# Altium integrated library Altium_SMD_Resister.IntLib: 493 symbols (part 6 of 8)
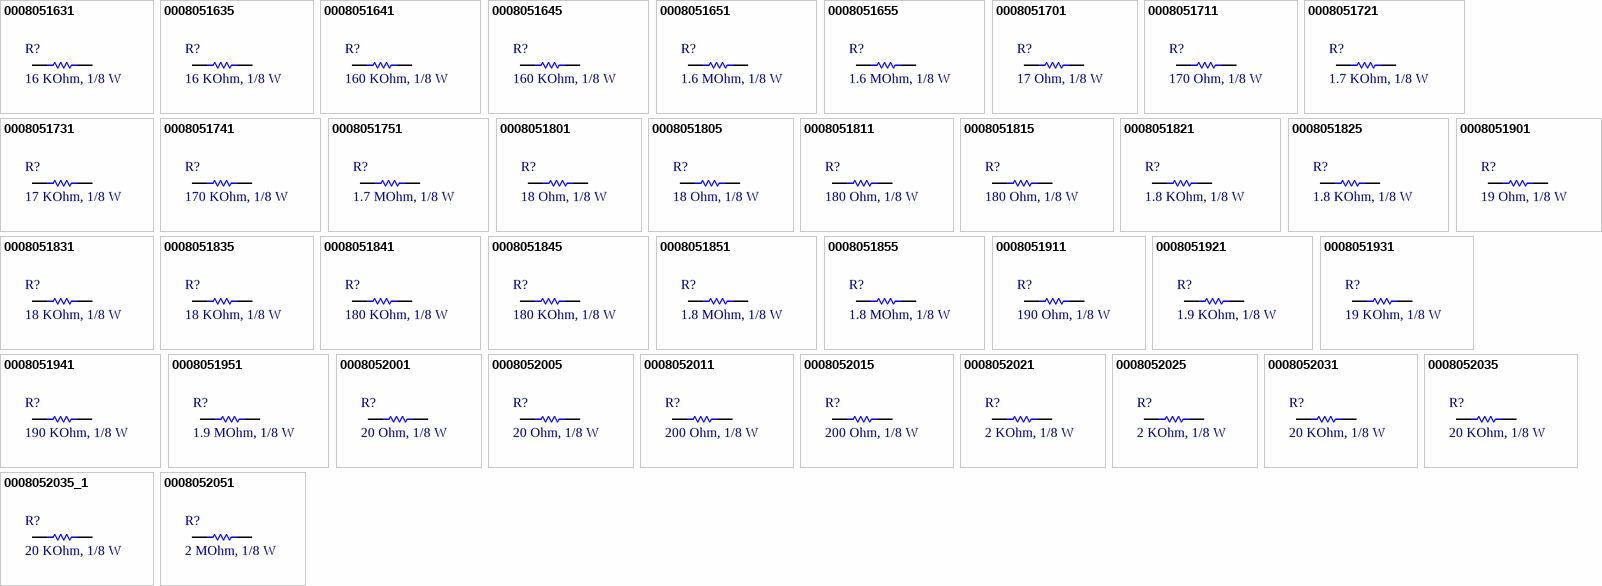
[diagram p17: symbols 0008051631 to 0008052051]

## 0008051811
designator R?, comment 180 Ohm, 1/8 W
RES, size 0805, 180 Ohm, 1/8 W; Manufacture  Name: Vishay Dale; Manufacture  SN: CRCW0805180RFKEA; Resistance tolerance: +/-1%; Rated Power: 1/8 W; Resistance: 180 Ohm; Size: 0805; Mounting Technology: SMT; Datasheet: https://www.vishay.com/docs/20035/dcrcwe3.pdf; Supplier 1 Name: Mouser; Supplier 1 SN: 71-CRCW0805180RFKEA; Supplier 1 URL: https://www.mouser.vn/ProductDetail/Vishay-Dale/CRCW0805180RFKEA?qs=2mNt4BZ3oPx3JSoDddPwBg%3D%3D; Supplier 2 Name: Digi-Key; Supplier 2 SN: 541-180CTR-ND; Supplier 2 URL: https://www.digikey.com/en/products/detail/vishay-dale/CRCW0805180RFKEA/1175550; Supplier 3 Name: Thegioiic; Supplier 3 SN: N/A; Supplier 3 URL: https://www.thegioiic.com/dien-tro-180-ohm-0805-1; Value: 180 Ohm, 1/8 W
footprint RESISTOR_0805 (Chip Resistor, 2-Leads, Body 2,00x1,20mm, IPC Medium Density)
pins: 1, 2

## 0008051815
designator R?, comment 180 Ohm, 1/8 W
RES, size 0805, 180 Ohm, 1/8 W; Manufacture  Name: Vishay Dale; Manufacture  SN: CRCW0805180RJNEA; Resistance tolerance: +/-5%; Rated Power: 1/8 W; Resistance: 180 Ohm; Size: 0805; Mounting Technology: SMT; Datasheet: https://www.vishay.com/docs/20035/dcrcwe3.pdf; Supplier 1 Name: Mouser; Supplier 1 SN: 71-CRCW0805180RJNEA; Supplier 1 URL: https://www.mouser.vn/ProductDetail/Vishay-Dale/CRCW0805180RJNEA?qs=2mNt4BZ3oPw5LDq56YqQBw%3D%3D; Supplier 2 Name: Digi-Key; Supplier 2 SN: 541-180ATR-ND; Supplier 2 URL: https://www.digikey.com/en/products/detail/vishay-dale/CRCW0805180RJNEA/1175180; Supplier 3 Name: Thegioiic; Supplier 3 SN: N/A; Supplier 3 URL: https://www.thegioiic.com/dien-tro-180-ohm-0805-5; Value: 180 Ohm, 1/8 W
footprint RESISTOR_0805 (Chip Resistor, 2-Leads, Body 2,00x1,20mm, IPC Medium Density)
pins: 1, 2

## 0008051821
designator R?, comment 1.8 KOhm, 1/8 W
RES, size 0805, 1.8 KOhm, 1/8 W; Manufacture  Name: Vishay Dale; Manufacture  SN: CRCW08051K80FKEAC; Resistance tolerance: +/-1%; Rated Power: 1/8 W; Size: 0805; Mounting Technology: SMT; Datasheet: https://www.vishay.com/docs/28773/crcwce3.pdf; Resistance: 1.8 KOhm; Supplier 1 Name: Mouser; Supplier 1 SN: 71-CRCW0805-1.8K; Supplier 1 URL: https://www.mouser.vn/ProductDetail/Vishay-Dale/CRCW08051K80FKTA?qs=%2FCr5RXwmPBPYh0ghdoWn4A%3D%3D; Supplier 2 Name: Digi-Key; Supplier 2 SN: 541-CRCW08051K80FKEACTR-ND; Supplier 2 URL: https://www.digikey.com/en/products/detail/vishay-dale/CRCW08051K80FKEAC/7922423; Supplier 3 Name: Thegioiic; Supplier 3 SN: N/A; Supplier 3 URL: N/A; Value: 1.8 KOhm, 1/8 W
footprint RESISTOR_0805 (Chip Resistor, 2-Leads, Body 2,00x1,20mm, IPC Medium Density)
pins: 1, 2

## 0008051825
designator R?, comment 1.8 KOhm, 1/8 W
RES, size 0805, 1.8 KOhm, 1/8 W; Manufacture  Name: Vishay Dale; Manufacture  SN: CRCW08051K80JNEA; Resistance tolerance: +/-5%; Rated Power: 1/8 W; Size: 0805; Mounting Technology: SMT; Datasheet: https://www.vishay.com/docs/20035/dcrcwe3.pdf; Resistance: 1.8 KOhm; Supplier 1 Name: Mouser; Supplier 1 SN: 71-CRCW08051K80JNEA; Supplier 1 URL: https://www.mouser.vn/ProductDetail/Vishay-Dale/CRCW08051K80JNEA?qs=1CkV0QOCgMoziGcs0GIg9A%3D%3D; Supplier 2 Name: Digi-Key; Supplier 2 SN: 541-1.8KATR-ND; Supplier 2 URL: https://www.digikey.com/en/products/detail/vishay-dale/CRCW08051K80JNEA/1175204; Supplier 3 Name: Thegioiic; Supplier 3 SN: N/A; Supplier 3 URL: https://www.thegioiic.com/dien-tro-1-8-kohm-0805-5; Value: 1.8 KOhm, 1/8 W
footprint RESISTOR_0805 (Chip Resistor, 2-Leads, Body 2,00x1,20mm, IPC Medium Density)
pins: 1, 2

## 0008051831
designator R?, comment 18 KOhm, 1/8 W
RES, size 0805, 18 KOhm, 1/8 W; Manufacture  Name: Vishay Dale; Manufacture  SN: CRCW080518K0FKEAC; Resistance tolerance: +/-1%; Rated Power: 1/8 W; Resistance: 18 KOhm; Size: 0805; Mounting Technology: SMT; Datasheet: https://www.vishay.com/docs/28773/crcwce3.pdf; Supplier 1 Name: Mouser; Supplier 1 SN: 71-CRCW0805-18K; Supplier 1 URL: https://www.mouser.vn/ProductDetail/Vishay-Dale/CRCW080518K0FKTA?qs=y%252BxuShyeZ0NrSEy0dNjJIA%3D%3D; Supplier 2 Name: Digi-Key; Supplier 2 SN: 541-CRCW080518K0FKEACTR-ND; Supplier 2 URL: https://www.digikey.com/en/products/detail/vishay-dale/CRCW080518K0FKEAC/7922446; Supplier 3 Name: Thegioiic; Supplier 3 SN: N/A; Supplier 3 URL: N/A; Value: 18 KOhm, 1/8 W
footprint RESISTOR_0805 (Chip Resistor, 2-Leads, Body 2,00x1,20mm, IPC Medium Density)
pins: 1, 2

## 0008051835
designator R?, comment 18 KOhm, 1/8 W
RES, size 0805, 18 KOhm, 1/8 W; Manufacture  Name: Vishay Dale; Manufacture  SN: CRCW080518K0JNEA; Resistance tolerance: +/-5%; Rated Power: 1/8 W; Resistance: 18 KOhm; Size: 0805; Mounting Technology: SMT; Datasheet: https://www.vishay.com/docs/20035/dcrcwe3.pdf; Supplier 1 Name: Mouser; Supplier 1 SN: 71-CRCW080518K0JNEA; Supplier 1 URL: https://www.mouser.vn/ProductDetail/Vishay-Dale/CRCW080518K0JNEA?qs=DZvKvnD5UYWL7mO9xPXKNA%3D%3D; Supplier 2 Name: Digi-Key; Supplier 2 SN: 541-18KATR-ND; Supplier 2 URL: https://www.digikey.com/en/products/detail/vishay-dale/CRCW080518K0JNEA/1175228; Supplier 3 Name: Thegioiic; Supplier 3 SN: N/A; Supplier 3 URL: https://www.thegioiic.com/dien-tro-18-kohm-0805-5; Value: 18 KOhm, 1/8 W
footprint RESISTOR_0805 (Chip Resistor, 2-Leads, Body 2,00x1,20mm, IPC Medium Density)
pins: 1, 2

## 0008051841
designator R?, comment 180 KOhm, 1/8 W
RES, size 0805, 180 KOhm, 1/8 W; Manufacture  Name: Vishay Dale; Manufacture  SN: CRCW0805180KFKEAC; Resistance tolerance: +/-1%; Rated Power: 1/8 W; Size: 0805; Mounting Technology: SMT; Datasheet: https://www.vishay.com/docs/28773/crcwce3.pdf; Resistance: 180 KOhm; Supplier 1 Name: Mouser; Supplier 1 SN: 71-CRCW0805180KFKEA; Supplier 1 URL: https://www.mouser.vn/ProductDetail/Vishay-Dale/CRCW0805180KFKEA?qs=2mNt4BZ3oPxkEXJ7pFEQ5A%3D%3D; Supplier 2 Name: Digi-Key; Supplier 2 SN: 541-CRCW0805180KFKEACTR-ND; Supplier 2 URL: https://www.digikey.com/en/products/detail/vishay-dale/CRCW0805180KFKEAC/7922559; Supplier 3 Name: Thegioiic; Supplier 3 SN: N/A; Supplier 3 URL: https://www.vishay.com/docs/28773/crcwce3.pdf; Value: 180 KOhm, 1/8 W
footprint RESISTOR_0805 (Chip Resistor, 2-Leads, Body 2,00x1,20mm, IPC Medium Density)
pins: 1, 2

## 0008051845
designator R?, comment 180 KOhm, 1/8 W
RES, size 0805, 180 KOhm, 1/8 W; Manufacture  Name: Vishay Dale; Manufacture  SN: CRCW0805180KJNEA; Resistance tolerance: +/-5%; Rated Power: 1/8 W; Size: 0805; Mounting Technology: SMT; Datasheet: https://www.vishay.com/docs/20035/dcrcwe3.pdf; Resistance: 180 KOhm; Supplier 1 Name: Mouser; Supplier 1 SN: 71-CRCW0805180KJNEA; Supplier 1 URL: https://www.mouser.vn/c/passive-components/resistors/film-resistors/thick-film-resistors-smd/?case%20code%20-%20in=0805&m=Vishay&power%20rating=125%20mW%20%281%2F8%20W%29&resistance=180%20kOhms&tolerance=5%20%25; Supplier 2 Name: Digi-Key; Supplier 2 SN: 541-180KATR-ND; Supplier 2 URL: https://www.digikey.com/en/products/detail/vishay-dale/CRCW0805180KJNEA/1175252; Supplier 3 Name: Thegioiic; Supplier 3 SN: N/A; Supplier 3 URL: https://www.thegioiic.com/dien-tro-180-kohm-0805-5; Value: 180 KOhm, 1/8 W
footprint RESISTOR_0805 (Chip Resistor, 2-Leads, Body 2,00x1,20mm, IPC Medium Density)
pins: 1, 2

## 0008051851
designator R?, comment 1.8 MOhm, 1/8 W
RES, size 0805, 1.8 MOhm, 1/8 W; Manufacture  Name: Vishay Dale; Resistance tolerance: +/-1%; Rated Power: 1/8 W; Size: 0805; Mounting Technology: SMT; Datasheet: N/A; Supplier 1 Name: Mouser; Supplier 1 SN: 71-CRCW08051M80FKEAC; Supplier 1 URL: https://www.mouser.vn/ProductDetail/Vishay-Dale/CRCW08051M80FKEAC?qs=E3Y5ESvWgWPnWxcGndSAkw%3D%3D; Supplier 2 Name: Digi-Key; Supplier 2 SN: 71-CRCW08051M80FKEAC; Supplier 2 URL: https://www.digikey.com/en/products/detail/vishay-dale/CRCW08051M80FKEA/1176043; Supplier 3 Name: Thegioiic; Supplier 3 SN: N/A; Supplier 3 URL: N/A; Manufacture  SN: N/A; Resistance: 1.8 MOhm; Value: 1.8 MOhm, 1/8 W
footprint RESISTOR_0805 (Chip Resistor, 2-Leads, Body 2,00x1,20mm, IPC Medium Density)
pins: 1, 2

## 0008051855
designator R?, comment 1.8 MOhm, 1/8 W
RES, size 0805, 1.8 MOhm, 1/8 W; Manufacture  Name: Vishay Dale; Manufacture  SN: CRCW08051M80JNEA; Resistance tolerance: +/-5%; Rated Power: 1/8 W; Size: 0805; Mounting Technology: SMT; Datasheet: https://www.vishay.com/docs/20035/dcrcwe3.pdf; Supplier 1 Name: Mouser; Supplier 1 SN: 71-CRCW08051M80JNEA; Supplier 1 URL: https://www.mouser.vn/ProductDetail/Vishay-Dale/CRCW08051M80JNEA?qs=1CkV0QOCgMorN9CsUzm1mw%3D%3D; Supplier 2 Name: Digi-Key; Supplier 2 SN: 541-1.8MATR-ND; Supplier 2 URL: https://www.digikey.com/en/products/detail/vishay-dale/CRCW08051M80JNEA/1175276; Supplier 3 Name: Thegioiic; Supplier 3 SN: N/A; Supplier 3 URL: https://www.thegioiic.com/dien-tro-1-8-mohm-0805-5; Resistance: 1.8 MOhm; Value: 1.8 MOhm, 1/8 W
footprint RESISTOR_0805 (Chip Resistor, 2-Leads, Body 2,00x1,20mm, IPC Medium Density)
pins: 1, 2

## 0008051901
designator R?, comment 19 Ohm, 1/8 W
RES, size 0805, 19 Ohm, 1/8 W; Manufacture  Name: Vishay Dale; Manufacture  SN: CRCW080519R1FKEA; Resistance tolerance: +/-1%; Rated Power: 1/8 W; Resistance: 19 Ohm; Size: 0805; Mounting Technology: SMT; Datasheet: https://www.vishay.com/docs/20035/dcrcwe3.pdf; Supplier 1 Name: Mouser; Supplier 1 SN: 71-CRCW080519R1FKEA; Supplier 1 URL: https://www.mouser.vn/ProductDetail/Vishay-Dale/CRCW080519R1FKEA?qs=DZvKvnD5UYXfdXVlAdbS3g%3D%3D; Supplier 2 Name: Digi-Key; Supplier 2 SN: 541-19.1CTR-ND; Supplier 2 URL: https://www.digikey.com/en/products/detail/vishay-dale/CRCW080519R1FKEA/1175439; Supplier 3 Name: Thegioiic; Supplier 3 SN: N/A; Supplier 3 URL: N/A; Value: 19 Ohm, 1/8 W
footprint RESISTOR_0805 (Chip Resistor, 2-Leads, Body 2,00x1,20mm, IPC Medium Density)
pins: 1, 2

## 0008051911
designator R?, comment 190 Ohm, 1/8 W
RES, size 0805, 190 Ohm, 1/8 W; Manufacture  Name: Vishay Dale; Manufacture  SN: CRCW0805191RFKEA; Resistance tolerance: +/-1%; Rated Power: 1/8 W; Resistance: 190 Ohm; Size: 0805; Mounting Technology: SMT; Datasheet: https://www.vishay.com/docs/20035/dcrcwe3.pdf; Supplier 1 Name: Mouser; Supplier 1 SN: 71-CRCW0805191RFKEA; Supplier 1 URL: https://www.mouser.vn/ProductDetail/Vishay-Dale/CRCW0805191RFKEA?qs=DZvKvnD5UYVwpMLdTR87ZQ%3D%3D; Supplier 2 Name: Digi-Key; Supplier 2 SN: 541-191CTR-ND; Supplier 2 URL: https://www.digikey.com/en/products/detail/vishay-dale/CRCW0805191RFKEA/1175553; Supplier 3 Name: Thegioiic; Supplier 3 SN: N/A; Supplier 3 URL: N/A; Value: 190 Ohm, 1/8 W
footprint RESISTOR_0805 (Chip Resistor, 2-Leads, Body 2,00x1,20mm, IPC Medium Density)
pins: 1, 2

## 0008051921
designator R?, comment 1.9 KOhm, 1/8 W
RES, size 0805, 1.9 KOhm, 1/8 W; Manufacture  Name: Vishay Dale; Manufacture  SN: CRCW08051K91FKEA; Resistance tolerance: +/-1%; Rated Power: 1/8 W; Size: 0805; Mounting Technology: SMT; Datasheet: https://www.vishay.com/docs/20035/dcrcwe3.pdf; Resistance: 1.9 KOhm; Supplier 1 Name: Mouser; Supplier 1 SN: 71-CRCW08051K91FKEAC; Supplier 1 URL: https://www.mouser.vn/ProductDetail/Vishay-Dale/CRCW08051K91FKEAC?qs=E3Y5ESvWgWNbW88wEVrLPg%3D%3D; Supplier 2 Name: Digi-Key; Supplier 2 SN: 541-1.91KCTR-ND; Supplier 2 URL: https://www.digikey.com/en/products/detail/vishay-dale/CRCW08051K91FKEA/1175667; Supplier 3 Name: Thegioiic; Supplier 3 SN: N/A; Supplier 3 URL: N/A; Value: 1.9 KOhm, 1/8 W
footprint RESISTOR_0805 (Chip Resistor, 2-Leads, Body 2,00x1,20mm, IPC Medium Density)
pins: 1, 2

## 0008051931
designator R?, comment 19 KOhm, 1/8 W
RES, size 0805, 19 KOhm, 1/8 W; Manufacture  Name: Vishay Dale; Manufacture  SN: CRCW080519K0FKTA; Resistance tolerance: +/-1%; Rated Power: 1/8 W; Resistance: 19 KOhm; Size: 0805; Mounting Technology: SMT; Datasheet: https://www.vishay.com/docs/20008/dcrcw.pdf; Supplier 1 Name: Mouser; Supplier 1 SN: 71-CRCW0805-19.1K; Supplier 1 URL: https://www.mouser.vn/c/passive-components/resistors/film-resistors/thick-film-resistors-smd/?case%20code%20-%20in=0805&case%20code%20-%20mm=2012&m=Vishay&power%20rating=125%20mW%20%281%2F8%20W%29&resistance=19.1%20kOhms&termination%20style=SMD%2FSMT&tolerance=1%20%25; Supplier 2 Name: Digi-Key; Supplier 2 SN: CRCW080519K0FKTA-ND; Supplier 2 URL: https://www.digikey.com/en/products/detail/vishay-dale/CRCW080519K0FKTA/5074036?s=N4IgjCBcoExaBjKAzAhgGwM4FMA0IB7KAbXAAYAOAdgE4QBdfABwBcoQBlFgJwEsA7AOYgAvvgDM8EEkhoseQiXBhxERiFbsufIaPxgYNCNGkoMOfEUilxNcTAoNmbSJx4DhYkDEoBWKTJyForW4DQABADWAPIAFgC2mE4aLiAAqvy8LNHIALLYqJgArtzYeiAAtMaIZvKWSr4ALGoirUA; Supplier 3 Name: Thegioiic; Supplier 3 SN: N/A; Supplier 3 URL: N/A; Value: 19 KOhm, 1/8 W
footprint RESISTOR_0805 (Chip Resistor, 2-Leads, Body 2,00x1,20mm, IPC Medium Density)
pins: 1, 2

## 0008051941
designator R?, comment 190 KOhm, 1/8 W
RES, size 0805, 190 KOhm, 1/8 W; Manufacture  Name: Vishay Dale; Manufacture  SN: CRCW0805191KFKEAC; Resistance tolerance: +/-1%; Rated Power: 1/8 W; Size: 0805; Mounting Technology: SMT; Datasheet: https://www.vishay.com/docs/28773/crcwce3.pdf; Resistance: 190 KOhm; Supplier 1 Name: Mouser; Supplier 1 SN: 71-CRCW0805191KFKEAC; Supplier 1 URL: https://www.mouser.vn/ProductDetail/Vishay-Dale/CRCW0805191KFKEAC?qs=wd5RIQLrsJiMbMBlRMtkHQ%3D%3D; Supplier 2 Name: Digi-Key; Supplier 2 SN: 541-CRCW0805191KFKEACTR-ND; Supplier 2 URL: https://www.digikey.com/en/products/detail/vishay-dale/CRCW0805191KFKEAC/7922825; Supplier 3 Name: Thegioiic; Supplier 3 SN: N/A; Supplier 3 URL: https://www.mouser.vn/ProductDetail/Vishay-Dale/CRCW0805191KFKEAC?qs=wd5RIQLrsJiMbMBlRMtkHQ%3D%3D; Value: 190 KOhm, 1/8 W
footprint RESISTOR_0805 (Chip Resistor, 2-Leads, Body 2,00x1,20mm, IPC Medium Density)
pins: 1, 2

## 0008051951
designator R?, comment 1.9 MOhm, 1/8 W
RES, size 0805, 1.9 MOhm, 1/8 W; Manufacture  Name: Vishay Dale; Manufacture  SN: CRCW08051M91FKEAC; Resistance tolerance: +/-1%; Rated Power: 1/8 W; Size: 0805; Mounting Technology: SMT; Datasheet: https://www.vishay.com/docs/28773/crcwce3.pdf; Resistance: 1.9 MOhm; Supplier 1 Name: Mouser; Supplier 1 SN: 71-CRCW08051M91FKEA; Supplier 1 URL: https://www.mouser.vn/ProductDetail/Vishay-Dale/CRCW08051M91FKEA?qs=4T2aWUY5LRN4KaJWeIV0TQ%3D%3D; Supplier 2 Name: Digi-Key; Supplier 2 SN: CRCW08051M91FKEAC-ND; Supplier 2 URL: https://www.digikey.com/en/products/detail/vishay-dale/CRCW08051M91FKEAC/7923108; Supplier 3 Name: Thegioiic; Supplier 3 SN: N/A; Supplier 3 URL: N/A; Value: 1.9 MOhm, 1/8 W
footprint RESISTOR_0805 (Chip Resistor, 2-Leads, Body 2,00x1,20mm, IPC Medium Density)
pins: 1, 2

## 0008052001
designator R?, comment 20 Ohm, 1/8 W
RES, size 0805, 20 Ohm, 1/8 W; Manufacture  Name: Vishay Dale; Manufacture  SN: CRCW080520R0FKEA; Resistance tolerance: +/-1%; Rated Power: 1/8 W; Resistance: 20 Ohm; Size: 0805; Mounting Technology: SMT; Datasheet: https://www.vishay.com/docs/20035/dcrcwe3.pdf; Supplier 1 Name: Mouser; Supplier 1 SN: 71-CRCW080520R0FKEBC; Supplier 1 URL: https://www.mouser.vn/ProductDetail/Vishay-Dale/CRCW080520R0FKEBC?qs=wd5RIQLrsJh%2FR92AkXDUUQ%3D%3D; Supplier 2 Name: Digi-Key; Supplier 2 SN: 541-20.0CTR-ND; Supplier 2 URL: https://www.digikey.com/en/products/detail/vishay-dale/CRCW080520R0FKEA/1175441; Supplier 3 Name: Thegioiic; Supplier 3 SN: N/A; Supplier 3 URL: N/A; Value: 20 Ohm, 1/8 W
footprint RESISTOR_0805 (Chip Resistor, 2-Leads, Body 2,00x1,20mm, IPC Medium Density)
pins: 1, 2

## 0008052005
designator R?, comment 20 Ohm, 1/8 W
RES, size 0805, 20 Ohm, 1/8 W; Manufacture  Name: Vishay Dale; Manufacture  SN: CRCW080520R0JNEAC; Resistance tolerance: +/-5%; Rated Power: 1/8 W; Resistance: 20 Ohm; Size: 0805; Mounting Technology: SMT; Datasheet: https://www.vishay.com/docs/28773/crcwce3.pdf; Supplier 1 Name: Mouser; Supplier 1 SN: 71-CRCW080520R0JNEA; Supplier 1 URL: https://www.mouser.vn/ProductDetail/Vishay-Dale/CRCW080520R0FKEBC?qs=wd5RIQLrsJh%2FR92AkXDUUQ%3D%3D; Supplier 2 Name: Digi-Key; Supplier 2 SN: 541-CRCW080520R0JNEACTR-ND; Supplier 2 URL: https://www.mouser.vn/ProductDetail/Vishay-Dale/CRCW080520R0JNEA?qs=t6Mf8e9K%2FulaBeAax0Rq9A%3D%3D; Supplier 3 Name: Thegioiic; Supplier 3 SN: N/A; Supplier 3 URL: https://www.thegioiic.com/dien-tro-20-ohm-0805-5-; Value: 20 Ohm, 1/8 W
footprint RESISTOR_0805 (Chip Resistor, 2-Leads, Body 2,00x1,20mm, IPC Medium Density)
pins: 1, 2

## 0008052011
designator R?, comment 200 Ohm, 1/8 W
RES, size 0805, 200 Ohm, 1/8 W; Manufacture  Name: Vishay Dale; Manufacture  SN: CRCW0805200RFKEAC; Resistance tolerance: +/-1%; Rated Power: 1/8 W; Resistance: 200 Ohm; Size: 0805; Mounting Technology: SMT; Datasheet: https://www.vishay.com/docs/28773/crcwce3.pdf; Supplier 1 Name: Mouser; Supplier 1 SN: 71-CRCW0805200RFKEBC; Supplier 1 URL: https://www.mouser.vn/ProductDetail/Vishay-Dale/CRCW0805200RFKEBC?qs=wd5RIQLrsJjaNQUh4mW%252B3A%3D%3D; Supplier 2 Name: Digi-Key; Supplier 2 SN: 541-4146-2-ND; Supplier 2 URL: https://www.digikey.com/en/products/detail/vishay-dale/CRCW0805200RFKEAC/7928568; Supplier 3 Name: Thegioiic; Supplier 3 SN: N/A; Supplier 3 URL: N/A; Value: 200 Ohm, 1/8 W
footprint RESISTOR_0805 (Chip Resistor, 2-Leads, Body 2,00x1,20mm, IPC Medium Density)
pins: 1, 2

## 0008052015
designator R?, comment 200 Ohm, 1/8 W
RES, size 0805, 200 Ohm, 1/8 W; Manufacture  Name: Vishay Dale; Manufacture  SN: CRCW0805200RJNEA; Resistance tolerance: +/-5%; Rated Power: 1/8 W; Resistance: 200 Ohm; Size: 0805; Mounting Technology: SMT; Datasheet: https://www.vishay.com/docs/20035/dcrcwe3.pdf; Supplier 1 Name: Mouser; Supplier 1 SN: 71-CRCW0805200RJNEB; Supplier 1 URL: https://www.mouser.vn/ProductDetail/Vishay-Dale/CRCW0805200RJNEB?qs=t6Mf8e9K%2Fuk2QHyNFfSEGg%3D%3D; Supplier 2 Name: Digi-Key; Supplier 2 SN: 541-200ATR-ND; Supplier 2 URL: https://www.digikey.com/en/products/detail/vishay-dale/CRCW0805200RJNEA/1175181; Supplier 3 Name: Thegioiic; Supplier 3 SN: N/A; Supplier 3 URL: https://www.thegioiic.com/dien-tro-200-ohm-0805-5; Value: 200 Ohm, 1/8 W
footprint RESISTOR_0805 (Chip Resistor, 2-Leads, Body 2,00x1,20mm, IPC Medium Density)
pins: 1, 2

## 0008052021
designator R?, comment 2 KOhm, 1/8 W
RES, size 0805, 2 KOhm, 1/8 W; Manufacture  Name: Vishay Dale; Manufacture  SN: CRCW08052K00FKEBC; Resistance tolerance: +/-1%; Rated Power: 1/8 W; Resistance: 2 KOhm; Size: 0805; Mounting Technology: SMT; Datasheet: https://www.vishay.com/docs/28773/crcwce3.pdf; Supplier 1 Name: Mouser; Supplier 1 SN: 71-CRCW08052K00FKEBC; Supplier 1 URL: https://www.mouser.vn/ProductDetail/Vishay-Dale/CRCW08052K00FKEBC?qs=wd5RIQLrsJimvZ2z7rs9jQ%3D%3D; Supplier 2 Name: Digi-Key; Supplier 2 SN: 541-CRCW08052K00FKEBCTR-ND; Supplier 2 URL: https://www.digikey.com/en/products/detail/vishay-dale/CRCW08052K00FKEBC/7923203; Supplier 3 Name: Thegioiic; Supplier 3 SN: N/A; Supplier 3 URL: N/A; Value: 2 KOhm, 1/8 W
footprint RESISTOR_0805 (Chip Resistor, 2-Leads, Body 2,00x1,20mm, IPC Medium Density)
pins: 1, 2

## 0008052025
designator R?, comment 2 KOhm, 1/8 W
RES, size 0805, 2 KOhm, 1/8 W; Manufacture  Name: Vishay Dale; Manufacture  SN: CRCW08052K00JNEA; Resistance tolerance: +/-5%; Rated Power: 1/8 W; Resistance: 2 KOhm; Size: 0805; Mounting Technology: SMT; Datasheet: https://www.vishay.com/docs/20035/dcrcwe3.pdf; Supplier 1 Name: Mouser; Supplier 1 SN: 71-CRCW08052K00JNEA; Supplier 1 URL: https://www.mouser.vn/ProductDetail/Vishay-Dale/CRCW08052K00JNEA?qs=SM0pg8AlB3peKJz4hE%252BhDA%3D%3D; Supplier 2 Name: Digi-Key; Supplier 2 SN: 541-2.0KATR-ND; Supplier 2 URL: https://www.digikey.com/en/products/detail/vishay-dale/CRCW08052K00JNEA/1175205; Supplier 3 Name: Thegioiic; Supplier 3 SN: N/A; Supplier 3 URL: https://www.thegioiic.com/dien-tro-2-kohm-0805-5; Value: 2 KOhm, 1/8 W
footprint RESISTOR_0805 (Chip Resistor, 2-Leads, Body 2,00x1,20mm, IPC Medium Density)
pins: 1, 2

## 0008052031
designator R?, comment 20 KOhm, 1/8 W
RES, size 0805, 20 KOhm, 1/8 W; Manufacture  Name: Vishay Dale; Manufacture  SN: CRCW080520K0FKEAC; Resistance tolerance: +/-1%; Rated Power: 1/8 W; Resistance: 20 KOhm; Size: 0805; Mounting Technology: SMT; Datasheet: https://www.vishay.com/docs/28773/crcwce3.pdf; Supplier 1 Name: Mouser; Supplier 1 SN: 71-CRCW0805-20K; Supplier 1 URL: https://www.mouser.vn/ProductDetail/Vishay-Dale/CRCW080520K0FKTA?qs=18bRiP0yrODnUEny%2FmPwqA%3D%3D; Supplier 2 Name: Digi-Key; Supplier 2 SN: 541-4133-2-ND; Supplier 2 URL: https://www.digikey.com/en/products/detail/vishay-dale/CRCW080520K0FKEAC/7928555; Supplier 3 Name: Thegioiic; Supplier 3 SN: N/A; Supplier 3 URL: https://www.thegioiic.com/dien-tro-20-kohm-0805-1; Value: 20 KOhm, 1/8 W
footprint RESISTOR_0805 (Chip Resistor, 2-Leads, Body 2,00x1,20mm, IPC Medium Density)
pins: 1, 2

## 0008052035
designator R?, comment 20 KOhm, 1/8 W
RES, size 0805, 20 KOhm, 1/8 W; Manufacture  Name: Panasonic; Manufacture  SN: ERJ-U06J203V; Resistance tolerance: +/-5%; Rated Power: 1/8 W; Resistance: 20 KOhm; Size: 0805; Mounting Technology: SMT; Datasheet: https://www.mouser.vn/datasheet/2/315/AOA0000C334-1314047.pdf; Supplier 1 Name: Mouser; Supplier 1 SN: 667-ERJ-U06J203V; Supplier 1 URL: https://www.mouser.vn/ProductDetail/Panasonic/ERJ-U06J203V?qs=Yyy8avaXlIv0b2cRsnbjDw%3D%3D; Supplier 2 Name: Digi-Key; Supplier 2 SN: P20KATR-ND - Tape & Reel (TR); Supplier 2 URL: https://www.digikey.com/en/products/detail/panasonic-electronic-components/ERJ-6GEYJ203V/83076; Supplier 3 Name: Thegioiic; Supplier 3 SN: N/A; Supplier 3 URL: https://www.thegioiic.com/dien-tro-20-kohm-0805-5-; Value: 20 KOhm, 1/8 W
footprint RESISTOR_0805 (Chip Resistor, 2-Leads, Body 2,00x1,20mm, IPC Medium Density)
pins: 1, 2

## 0008052035_1
designator R?, comment 20 KOhm, 1/8 W
RES, size 0805, 20 KOhm, 1/8 W; Manufacture  Name: Vishay Dale; Manufacture  SN: CRCW080520K0JNEA; Resistance tolerance: +/-5%; Rated Power: 1/8 W; Resistance: 20 KOhm; Size: 0805; Mounting Technology: SMT; Datasheet: https://www.vishay.com/docs/20035/dcrcwe3.pdf; Supplier 1 Name: Mouser; Supplier 1 SN: 71-CRCW0805J-20K-E3; Supplier 1 URL: https://www.mouser.vn/ProductDetail/Vishay-Dale/CRCW080520K0JNEA?qs=t6Mf8e9K%2FunNZ57Hz5Mz5w%3D%3D; Supplier 2 Name: Digi-Key; Supplier 2 SN: 541-20KATR-ND; Supplier 2 URL: https://www.digikey.com/en/products/detail/vishay-dale/CRCW080520K0JNEA/1175229; Supplier 3 Name: Thegioiic; Supplier 3 SN: N/A; Supplier 3 URL: https://www.thegioiic.com/dien-tro-20-kohm-0805-5-; Value: 20 KOhm, 1/8 W
footprint RESISTOR_0805 (Chip Resistor, 2-Leads, Body 2,00x1,20mm, IPC Medium Density)
pins: 1, 2

## 0008052051
designator R?, comment 2 MOhm, 1/8 W
RES, size 0805, 2 MOhm, 1/8 W; Manufacture  Name: Panasonic; Manufacture  SN: ERJ-6ENF2004V; Resistance tolerance: +/-1%; Rated Power: 1/8 W; Resistance: 2 MOhm; Size: 0805; Mounting Technology: SMT; Datasheet: https://www.mouser.vn/datasheet/2/315/AOA0000C304-1149620.pdf; Supplier 1 Name: Mouser; Supplier 1 SN: 667-ERJ-6ENF2004V; Supplier 1 URL: https://www.mouser.vn/ProductDetail/Panasonic/ERJ-6ENF2004V?qs=50QC8w71jAsSP8AJKmX4kA%3D%3D; Supplier 2 Name: Digi-Key; Supplier 2 SN: N/A; Supplier 2 URL: N/A; Supplier 3 Name: Thegioiic; Supplier 3 SN: N/A; Supplier 3 URL: N/A; Value: 2 MOhm, 1/8 W
footprint RESISTOR_0805 (Chip Resistor, 2-Leads, Body 2,00x1,20mm, IPC Medium Density)
pins: 1, 2

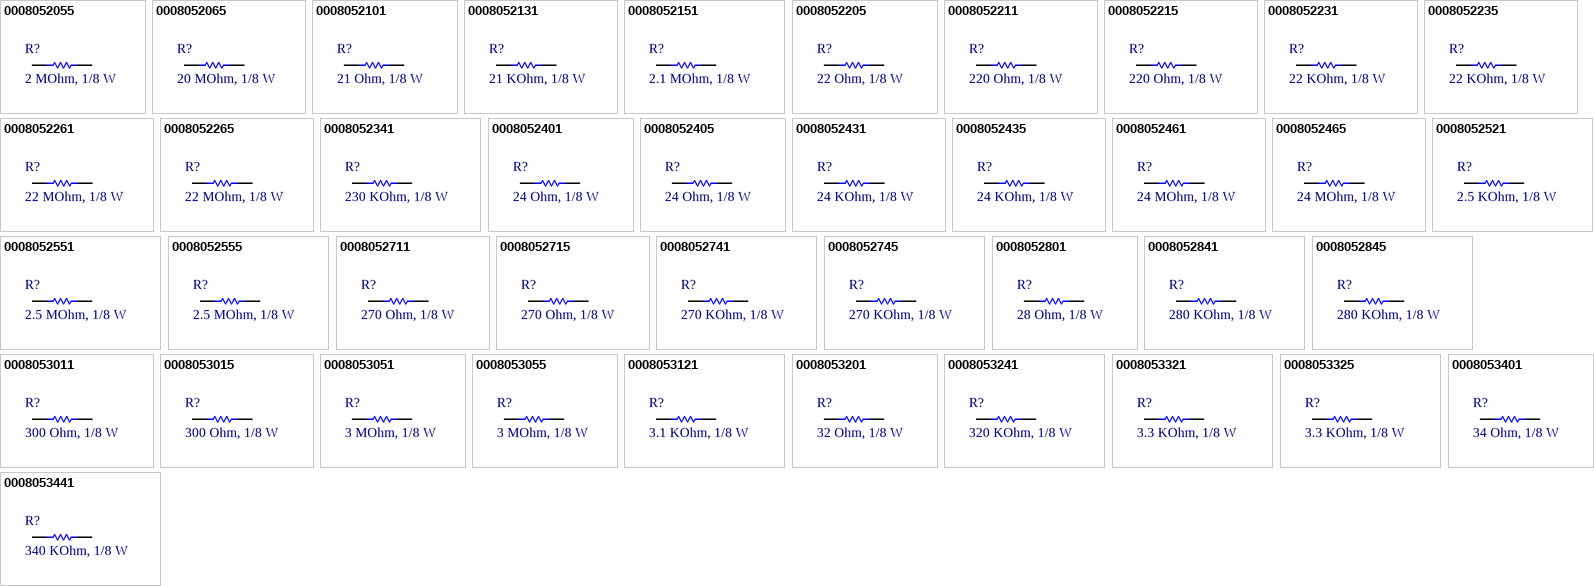
[diagram p9: symbols 0008052055 to 0008053441]

## 0008052055
designator R?, comment 2 MOhm, 1/8 W
RES, size 0805, 2 MOhm, 1/8 W; Manufacture  Name: Panasonic; Manufacture  SN: ERJ-6GEYJ205V; Resistance tolerance: +/-5%; Rated Power: 1/8 W; Resistance: 2 MOhm; Size: 0805; Mounting Technology: SMT; Datasheet: https://www.mouser.vn/datasheet/2/315/AOA0000C301-1488782.pdf; Supplier 1 Name: Mouser; Supplier 1 SN: 667-ERJ-6GEYJ205V; Supplier 1 URL: https://www.mouser.vn/ProductDetail/Panasonic/ERJ-6GEYJ205V?qs=8%252BG0TiN%2FgVosrBfWIhyhKw%3D%3D; Supplier 2 Name: Digi-Key; Supplier 2 SN: 10-ERJ-U06J205VTR-ND - Tape & Reel (TR); Supplier 2 URL: https://www.digikey.com/en/products/detail/panasonic-electronic-components/ERJ-U06J205V/11631387; Supplier 3 Name: Thegioiic; Supplier 3 SN: N/A; Supplier 3 URL: N/A; Value: 2 MOhm, 1/8 W
footprint RESISTOR_0805 (Chip Resistor, 2-Leads, Body 2,00x1,20mm, IPC Medium Density)
pins: 1, 2

## 0008052065
designator R?, comment 20 MOhm, 1/8 W
RES, size 0805, 20 MOhm, 1/8 W; Manufacture  Name: YAGEO; Manufacture  SN: RC0805JR-0720ML; Resistance tolerance: +/-5%; Rated Power: 1/8 W; Resistance: 20 MOhm; Size: 0805; Mounting Technology: SMT; Datasheet: https://www.mouser.vn/datasheet/2/447/PYu_RC_Group_51_RoHS_L_11-1984063.pdf; Supplier 1 Name: Mouser; Supplier 1 SN: 13-RC0805JR-0720MLTR-ND - Tape & Reel (TR); Supplier 1 URL: https://www.mouser.vn/ProductDetail/YAGEO/RC0805JR-0720ML?qs=FsveJYYILCKsJCsPRaOT6g%3D%3D; Supplier 2 Name: Digi-Key; Supplier 2 SN: P2.1BTTR-ND - Tape & Reel (TR); Supplier 2 URL: https://www.digikey.com/en/products/detail/yageo/RC0805JR-0720ML/5919059; Supplier 3 Name: Thegioiic; Supplier 3 SN: N/A; Supplier 3 URL: N/A; Value: 20 MOhm, 1/8 W
footprint RESISTOR_0805 (Chip Resistor, 2-Leads, Body 2,00x1,20mm, IPC Medium Density)
pins: 1, 2

## 0008052101
designator R?, comment 21 Ohm, 1/8 W
RES, size 0805, 21 Ohm, 1/8 W; Manufacture  Name: Vishay / Dale; Manufacture  SN: CRCW080521R0FKEA; Resistance tolerance: +/-1%; Rated Power: 1/8 W; Resistance: 21 Ohm; Size: 0805; Mounting Technology: SMT; Datasheet: https://www.vishay.com/doc?20035; Supplier 1 Name: Mouser; Supplier 1 SN: 71-CRCW080521R0FKEA; Supplier 1 URL: https://www.mouser.vn/ProductDetail/Vishay-Dale/CRCW080521R0FKEA?qs=t6Mf8e9K%2Fuko8IyNc8Xfag%3D%3D; Supplier 2 Name: Digi-Key; Supplier 2 SN: N/A; Supplier 2 URL: N/A; Supplier 3 Name: Thegioiic; Supplier 3 SN: N/A; Supplier 3 URL: N/A; Value: 21 Ohm, 1/8 W
footprint RESISTOR_0805 (Chip Resistor, 2-Leads, Body 2,00x1,20mm, IPC Medium Density)
pins: 1, 2

## 0008052131
designator R?, comment 21 KOhm, 1/8 W
RES, size 0805, 21 KOhm, 1/8 W; Manufacture  Name: Bourns; Manufacture  SN: CR0805-FX-2102ELF; Resistance tolerance: +/-1%; Rated Power: 1/8 W; Resistance: 21 KOhm; Size: 0805; Mounting Technology: SMT; Datasheet: https://www.mouser.vn/datasheet/2/54/cr-1858361.pdf; Supplier 1 Name: Mouser; Supplier 1 SN: 652-CR0805FX-2102ELF; Supplier 1 URL: https://www.mouser.vn/ProductDetail/Bourns/CR0805-FX-2102ELF?qs=Woncl1%2FcWdgAGNTXVWqgGA%3D%3D; Supplier 2 Name: Digi-Key; Supplier 2 SN: 311-21.0KCRTR-ND - Tape & Reel (TR); Supplier 2 URL: https://www.digikey.com/en/products/detail/yageo/RC0805FR-0721KL/727728; Supplier 3 Name: Thegioiic; Supplier 3 SN: N/A; Supplier 3 URL: N/A; Value: 21 KOhm, 1/8 W
footprint RESISTOR_0805 (Chip Resistor, 2-Leads, Body 2,00x1,20mm, IPC Medium Density)
pins: 1, 2

## 0008052151
designator R?, comment 2.1 MOhm, 1/8 W
RES, size 0805, 2.1 MOhm, 1/8 W; Manufacture  Name: Vishay / Dale; Manufacture  SN: CRCW08052M10FKEA; Resistance tolerance: +/-1%; Rated Power: 1/8 W; Size: 0805; Mounting Technology: SMT; Datasheet: https://www.vishay.com/doc?20035; Resistance: 2.1 MOhm; Supplier 1 Name: Mouser; Supplier 1 SN: 71-CRCW08052M10FKEA; Supplier 1 URL: https://www.mouser.vn/ProductDetail/Vishay-Dale/CRCW08052M10FKEA?qs=AxGrLaB7GFLQOtpwLfDPFg%3D%3D; Supplier 2 Name: Digi-Key; Supplier 2 SN: P2.1BTTR-ND - Tape & Reel (TR); Supplier 2 URL: https://www.digikey.com/en/products/detail/panasonic-electronic-components/ERJ-6ENF2104V/4429124; Supplier 3 Name: Thegioiic; Supplier 3 SN: N/A; Supplier 3 URL: N/A; Value: 2.1 MOhm, 1/8 W
footprint RESISTOR_0805 (Chip Resistor, 2-Leads, Body 2,00x1,20mm, IPC Medium Density)
pins: 1, 2

## 0008052205
designator R?, comment 22 Ohm, 1/8 W
RES, size 0805, 22 Ohm, 1/8 W; Manufacture  Name: Bourns; Manufacture  SN: CR0805-JW-200ELF; Resistance tolerance: +/-5%; Rated Power: 1/8 W; Resistance: 22 Ohm; Size: 0805; Mounting Technology: SMT; Datasheet: https://www.mouser.vn/datasheet/2/54/cr-1858361.pdf; Supplier 1 Name: Mouser; Supplier 1 SN: 652-CR0805JW-200ELF; Supplier 1 URL: https://www.mouser.vn/ProductDetail/Bourns/CR0805-JW-200ELF?qs=wL7NMIHXUPkPRFW4oSYkFg%3D%3D; Supplier 2 Name: Digi-Key; Supplier 2 SN: CHP0805-JW-200ELFTR-ND - Tape & Reel (TR); Supplier 2 URL: https://www.digikey.com/en/products/detail/bourns-inc/CHP0805-JW-200ELF/9598606; Supplier 3 Name: Thegioiic; Supplier 3 SN: N/A; Supplier 3 URL: https://www.thegioiic.com/dien-tro-20-ohm-0805-5-; Value: 22 Ohm, 1/8 W
footprint RESISTOR_0805 (Chip Resistor, 2-Leads, Body 2,00x1,20mm, IPC Medium Density)
pins: 1, 2

## 0008052211
designator R?, comment 220 Ohm, 1/8 W
RES, size 0805, 220 Ohm, 1/8 W; Manufacture  Name: ROHM Semiconductor; Manufacture  SN: SFR10EZPF2200; Resistance tolerance: +/-1%; Rated Power: 1/8 W; Resistance: 220 Ohm; Size: 0805; Mounting Technology: SMT; Datasheet: https://www.mouser.vn/datasheet/2/348/sfr_e-3009639.pdf; Supplier 1 Name: Mouser; Supplier 1 SN: 755-SFR10EZPF2200; Supplier 1 URL: https://www.mouser.vn/ProductDetail/ROHM-Semiconductor/SFR10EZPF2200?qs=Y0Uzf4wQF3kqA8mD%252BXm5fA%3D%3D; Supplier 2 Name: Digi-Key; Supplier 2 SN: 13-RC0805FR-13220RLTR-ND - Tape & Reel (TR); Supplier 2 URL: https://www.digikey.com/en/products/detail/yageo/RC0805FR-13220RL/14008293; Supplier 3 Name: Thegioiic; Supplier 3 SN: N/A; Supplier 3 URL: https://www.thegioiic.com/dien-tro-220-ohm-0805-1-; Value: 220 Ohm, 1/8 W
footprint RESISTOR_0805 (Chip Resistor, 2-Leads, Body 2,00x1,20mm, IPC Medium Density)
pins: 1, 2

## 0008052215
designator R?, comment 220 Ohm, 1/8 W
RES, size 0805, 220 Ohm, 1/8 W; Manufacture  Name: Panasonic; Manufacture  SN: ERJ-U06J221V; Resistance tolerance: +/-5%; Rated Power: 1/8 W; Resistance: 220 Ohm; Size: 0805; Mounting Technology: SMT; Datasheet: https://www.mouser.vn/datasheet/2/348/sfr_e-3009639.pdf; Supplier 1 Name: Mouser; Supplier 1 SN: 667-ERJ-U06J221V; Supplier 1 URL: https://www.mouser.vn/ProductDetail/ROHM-Semiconductor/SFR10EZPF2200?qs=Y0Uzf4wQF3kqA8mD%252BXm5fA%3D%3D; Supplier 2 Name: Digi-Key; Supplier 2 SN: P220ATR-ND - Tape & Reel (TR); Supplier 2 URL: https://www.digikey.com/en/products/detail/panasonic-electronic-components/ERJ-6GEYJ221V/89706; Supplier 3 Name: Thegioiic; Supplier 3 SN: N/A; Supplier 3 URL: https://www.thegioiic.com/dien-tro-220-ohm-0805-5; Value: 220 Ohm, 1/8 W
footprint RESISTOR_0805 (Chip Resistor, 2-Leads, Body 2,00x1,20mm, IPC Medium Density)
pins: 1, 2

## 0008052231
designator R?, comment 22 KOhm, 1/8 W
RES, size 0805, 22 KOhm, 1/8 W; Manufacture  Name: Vishay / Dale; Manufacture  SN: CRCW080522K0FKEA; Resistance tolerance: +/-1%; Rated Power: 1/8 W; Resistance: 22 KOhm; Size: 0805; Mounting Technology: SMT; Datasheet: https://www.vishay.com/doc?20035; Supplier 1 Name: Mouser; Supplier 1 SN: 71-CRCW0805-22K-E3; Supplier 1 URL: https://www.mouser.vn/ProductDetail/Vishay-Dale/CRCW080522K0FKEA?qs=fIsz7OpyEY835T0D7WGkRw%3D%3D; Supplier 2 Name: Digi-Key; Supplier 2 SN: 13-RC0805FR-1322KLTR-ND - Tape & Reel (TR); Supplier 2 URL: https://www.digikey.com/en/products/detail/yageo/RC0805FR-1322KL/14008208; Supplier 3 Name: Thegioiic; Supplier 3 SN: N/A; Supplier 3 URL: https://www.thegioiic.com/dien-tro-22-kohm-0805-1; Value: 22 KOhm, 1/8 W
footprint RESISTOR_0805 (Chip Resistor, 2-Leads, Body 2,00x1,20mm, IPC Medium Density)
pins: 1, 2

## 0008052235
designator R?, comment 22 KOhm, 1/8 W
RES, size 0805, 22 KOhm, 1/8 W; Manufacture  Name: Vishay / Dale; Manufacture  SN: CRCW080522K0FKEA; Resistance tolerance: +/-5%; Rated Power: 1/8 W; Resistance: 22 KOhm; Size: 0805; Mounting Technology: SMT; Datasheet: https://www.vishay.com/doc?20035; Supplier 1 Name: Mouser; Supplier 1 SN: 71-CRCW0805-22K-E3; Supplier 1 URL: https://www.mouser.vn/ProductDetail/Vishay-Dale/CRCW080522K0FKEA?qs=fIsz7OpyEY835T0D7WGkRw%3D%3D; Supplier 2 Name: Digi-Key; Supplier 2 SN: 13-RC0805FR-1322KLTR-ND - Tape & Reel (TR); Supplier 2 URL: https://www.digikey.com/en/products/detail/yageo/RC0805FR-1322KL/14008208; Supplier 3 Name: Thegioiic; Supplier 3 SN: N/A; Supplier 3 URL: https://www.thegioiic.com/dien-tro-22-kohm-0805-1; Value: 22 KOhm, 1/8 W
footprint RESISTOR_0805 (Chip Resistor, 2-Leads, Body 2,00x1,20mm, IPC Medium Density)
pins: 1, 2

## 0008052261
designator R?, comment 22 MOhm, 1/8 W
RES, size 0805, 22 MOhm, 1/8 W; Manufacture  Name: SEI Stackpole; Manufacture  SN: RMCF0805FT22M0; Resistance tolerance: +/-1%; Rated Power: 1/8 W; Resistance: 22 MOhm; Size: 0805; Mounting Technology: SMT; Datasheet: https://www.mouser.vn/datasheet/2/385/SEI_RMCF_RMCP-3077565.pdf; Supplier 1 Name: Mouser; Supplier 1 SN: 708-RMCF0805FT22M0; Supplier 1 URL: https://www.mouser.vn/ProductDetail/SEI-Stackpole/RMCF0805FT22M0?qs=MyNHzdoqoQLIOin2poKxZA%3D%3D; Supplier 2 Name: Digi-Key; Supplier 2 SN: RMCF0805FT22M0TR-ND - Tape & Reel (TR); Supplier 2 URL: https://www.digikey.com/en/products/detail/stackpole-electronics-inc/RMCF0805FT22M0/6053747; Supplier 3 Name: Thegioiic; Supplier 3 SN: N/A; Supplier 3 URL: N/A; Value: 22 MOhm, 1/8 W
footprint RESISTOR_0805 (Chip Resistor, 2-Leads, Body 2,00x1,20mm, IPC Medium Density)
pins: 1, 2

## 0008052265
designator R?, comment 22 MOhm, 1/8 W
RES, size 0805, 22 MOhm, 1/8 W; Manufacture  Name: SEI Stackpole; Manufacture  SN: RMCF0805FT22M0; Resistance tolerance: +/-5%; Rated Power: 1/8 W; Resistance: 22 MOhm; Size: 0805; Mounting Technology: SMT; Datasheet: https://www.vishay.com/doc?20022; Supplier 1 Name: Mouser; Supplier 1 SN: 71-CRCW0805226JT; Supplier 1 URL: https://www.mouser.vn/ProductDetail/Vishay-Dale/CRCW080522M0JPEAHR?qs=fIsz7OpyEY%2FBgljFbesWMw%3D%3D; Supplier 2 Name: Digi-Key; Supplier 2 SN: 541-CRCW080522M0JPEAHRTR-ND - Tape & Reel (TR); Supplier 2 URL: https://www.digikey.com/en/products/detail/vishay-dale/CRCW080522M0JPEAHR/5074441; Supplier 3 Name: Thegioiic; Supplier 3 SN: N/A; Supplier 3 URL: N/A; Value: 22 MOhm, 1/8 W
footprint RESISTOR_0805 (Chip Resistor, 2-Leads, Body 2,00x1,20mm, IPC Medium Density)
pins: 1, 2

## 0008052341
designator R?, comment 230 KOhm, 1/8 W
RES, size 0805, 230 KOhm, 1/8 W; Manufacture  Name: Royalohm; Manufacture  SN: 0805W8F2303T5E; Resistance tolerance: +/-1%; Rated Power: 1/8 W; Size: 0805; Mounting Technology: SMT; Datasheet: https://www.mouser.vn/datasheet/2/1365/1-3044649.pdf; Resistance: 230 KOhm; Supplier 1 Name: Mouser; Supplier 1 SN: 303-0805W8F2303T5E; Supplier 1 URL: https://www.mouser.vn/ProductDetail/Royalohm/0805W8F2303T5E?qs=e8oIoAS2J1TfhjSl20ty9Q%3D%3D; Supplier 2 Name: Digi-Key; Supplier 2 SN: N/A; Supplier 2 URL: N/A; Supplier 3 Name: Thegioiic; Supplier 3 SN: N/A; Supplier 3 URL: N/A; Value: 230 KOhm, 1/8 W
footprint RESISTOR_0805 (Chip Resistor, 2-Leads, Body 2,00x1,20mm, IPC Medium Density)
pins: 1, 2

## 0008052401
designator R?, comment 24 Ohm, 1/8 W
RES, size 0805, 24 Ohm, 1/8 W; Manufacture  Name: Bourns; Manufacture  SN: CR0805-FX-24R0ELF; Resistance tolerance: +/-1%; Rated Power: 1/8 W; Resistance: 24 Ohm; Size: 0805; Mounting Technology: SMT; Datasheet: https://www.mouser.vn/datasheet/2/54/cr-1858361.pdf; Supplier 1 Name: Mouser; Supplier 1 SN: 652-CR0805FX-24R0ELF; Supplier 1 URL: https://www.mouser.vn/ProductDetail/Bourns/CR0805-FX-24R0ELF?qs=4vGXhLEMbUyS5LbGuwLBiw%3D%3D; Supplier 2 Name: Digi-Key; Supplier 2 SN: 311-24.0CRTR-ND - Tape & Reel (TR); Supplier 2 URL: https://www.digikey.com/en/products/detail/yageo/RC0805FR-0724RL/727755; Supplier 3 Name: Thegioiic; Supplier 3 SN: N/A; Supplier 3 URL: N/A; Value: 24 Ohm, 1/8 W
footprint RESISTOR_0805 (Chip Resistor, 2-Leads, Body 2,00x1,20mm, IPC Medium Density)
pins: 1, 2

## 0008052405
designator R?, comment 24 Ohm, 1/8 W
RES, size 0805, 24 Ohm, 1/8 W; Manufacture  Name: YAGEO; Manufacture  SN: AR0805JR-0724RL; Resistance tolerance: +/-5%; Rated Power: 1/8 W; Resistance: 24 Ohm; Size: 0805; Mounting Technology: SMT; Datasheet: https://www.mouser.vn/datasheet/2/447/PYu_AR_51_RoHS_L_7-3003081.pdf; Supplier 1 Name: Mouser; Supplier 1 SN: 603-AR0805JR-0724RL; Supplier 1 URL: https://www.mouser.vn/ProductDetail/YAGEO/AR0805JR-0724RL?qs=tub3WQyKOl9Td0xHEAWkDQ%3D%3D; Supplier 2 Name: Digi-Key; Supplier 2 SN: 311-24ARTR-ND - Tape & Reel (TR); Supplier 2 URL: https://www.digikey.com/en/products/detail/yageo/RC0805JR-0724RL/728289; Supplier 3 Name: Thegioiic; Supplier 3 SN: N/A; Supplier 3 URL: https://www.thegioiic.com/dien-tro-24-ohm-0805-5-; Value: 24 Ohm, 1/8 W
footprint RESISTOR_0805 (Chip Resistor, 2-Leads, Body 2,00x1,20mm, IPC Medium Density)
pins: 1, 2

## 0008052431
designator R?, comment 24 KOhm, 1/8 W
RES, size 0805, 24 KOhm, 1/8 W; Manufacture  Name: TE Connectivity / Holsworthy; Manufacture  SN: CRG0805F24K; Resistance tolerance: +/-1%; Rated Power: 1/8 W; Resistance: 24 KOhm; Size: 0805; Mounting Technology: SMT; Datasheet: https://www.mouser.vn/datasheet/2/418/NG_CD_1623163_BA-655702.pdf; Supplier 1 Name: Mouser; Supplier 1 SN: 279-CRG0805F24K; Supplier 1 URL: https://www.mouser.vn/ProductDetail/TE-Connectivity-Holsworthy/CRG0805F24K?qs=5Dj%252BCDyFp7jSU1utfpqO1w%3D%3D; Supplier 2 Name: Digi-Key; Supplier 2 SN: 311-24.0KCRTR-ND - Tape & Reel (TR); Supplier 2 URL: https://www.digikey.com/en/products/detail/yageo/RC0805FR-0724KL/727756; Supplier 3 Name: Thegioiic; Supplier 3 SN: N/A; Supplier 3 URL: N/A; Value: 24 KOhm, 1/8 W
footprint RESISTOR_0805 (Chip Resistor, 2-Leads, Body 2,00x1,20mm, IPC Medium Density)
pins: 1, 2

## 0008052435
designator R?, comment 24 KOhm, 1/8 W
RES, size 0805, 24 KOhm, 1/8 W; Manufacture  Name: Bourns; Manufacture  SN: CR0805-JW-243ELF; Resistance tolerance: +/-5%; Rated Power: 1/8 W; Resistance: 24 KOhm; Size: 0805; Mounting Technology: SMT; Datasheet: https://www.mouser.vn/datasheet/2/418/NG_CD_1623163_BA-655702.pdf; Supplier 1 Name: Mouser; Supplier 1 SN: 652-CR0805JW-243ELF; Supplier 1 URL: https://www.mouser.vn/ProductDetail/Bourns/CR0805-JW-243ELF?qs=%252BcBkmVQIZ2SWVtow93mBjQ%3D%3D; Supplier 2 Name: Digi-Key; Supplier 2 SN: 118-CR0805-JW-243ELFTR-ND - Tape & Reel (TR); Supplier 2 URL: https://www.digikey.com/en/products/detail/bourns-inc/CR0805-JW-243ELF/3785280; Supplier 3 Name: Thegioiic; Supplier 3 SN: N/A; Supplier 3 URL: https://www.thegioiic.com/dien-tro-24-kohm-0805-5; Value: 24 KOhm, 1/8 W
footprint RESISTOR_0805 (Chip Resistor, 2-Leads, Body 2,00x1,20mm, IPC Medium Density)
pins: 1, 2

## 0008052461
designator R?, comment 24 MOhm, 1/8 W
RES, size 0805, 24 MOhm, 1/8 W; Manufacture  Name: KOA Speer Electronics, Inc.; Manufacture  SN: HV732HTTE2405F; Resistance tolerance: +/-1%; Rated Power: 1/8 W; Resistance: 24 MOhm; Size: 0805; Mounting Technology: SMT; Datasheet: https://www.koaspeer.com/pdfs/HV73.pdf; Supplier 1 Name: Mouser; Supplier 1 SN: N/A; Supplier 1 URL: N/A; Supplier 2 Name: Digi-Key; Supplier 2 SN: 2019-HV732HTTE2405FTR-ND - Tape & Reel (TR); Supplier 2 URL: https://www.digikey.com/en/products/detail/koa-speer-electronics-inc/HV732HTTE2405F/10132853?s=N4IgjCBcoMxaBjKAzAhgGwM4FMA0IB7KAbXDBggF18AHAFyhAGU6AnASwDsBzEAX3wAmAAwAOAKzwQSSGix5CJEIIAsAAgCyAeQAWAW0whqIeowCqndnS3IN2VJgCurbPz58gA; Supplier 3 Name: Thegioiic; Supplier 3 SN: N/A; Supplier 3 URL: N/A; Value: 24 MOhm, 1/8 W
footprint RESISTOR_0805 (Chip Resistor, 2-Leads, Body 2,00x1,20mm, IPC Medium Density)
pins: 1, 2

## 0008052465
designator R?, comment 24 MOhm, 1/8 W
RES, size 0805, 24 MOhm, 1/8 W; Manufacture  Name: KOA Speer Electronics, Inc.; Manufacture  SN: HV732ATTD246J; Resistance tolerance: +/-5%; Rated Power: 1/8 W; Resistance: 24 MOhm; Size: 0805; Mounting Technology: SMT; Datasheet: https://www.mouser.vn/datasheet/2/219/HV73-11287.pdf; Supplier 1 Name: Mouser; Supplier 1 SN: N/A; Supplier 1 URL: N/A; Supplier 2 Name: Digi-Key; Supplier 2 SN: 660-HV732ATTD246J; Supplier 2 URL: https://www.mouser.vn/ProductDetail/KOA-Speer/HV732ATTD246J?qs=UGeEjMFwUpRa%252BFVrwwDXrw%3D%3D; Supplier 3 Name: Thegioiic; Supplier 3 SN: N/A; Supplier 3 URL: N/A; Value: 24 MOhm, 1/8 W
footprint RESISTOR_0805 (Chip Resistor, 2-Leads, Body 2,00x1,20mm, IPC Medium Density)
pins: 1, 2

## 0008052521
designator R?, comment 2.5 KOhm, 1/8 W
RES, size 0805, 2.5 KOhm, 1/8 W; Manufacture  Name: Royalohm; Manufacture  SN: 0805W8F2501T5E; Resistance tolerance: +/-1%; Rated Power: 1/8 W; Size: 0805; Mounting Technology: SMT; Datasheet: https://www.mouser.vn/datasheet/2/1365/1-3044649.pdf; Resistance: 2.5 KOhm; Supplier 1 Name: Mouser; Supplier 1 SN: 303-0805W8F2501T5E; Supplier 1 URL: https://www.mouser.vn/ProductDetail/Royalohm/0805W8F2501T5E?qs=e8oIoAS2J1Qc4Ic0dQUBsw%3D%3D; Supplier 2 Name: Digi-Key; Supplier 2 SN: 2997-CR102501FTR-ND - Tape & Reel (TR); Supplier 2 URL: https://www.digikey.com/en/products/detail/meritek/CR102501F/13414399; Supplier 3 Name: Thegioiic; Supplier 3 SN: N/A; Supplier 3 URL: N/A; Value: 2.5 KOhm, 1/8 W
footprint RESISTOR_0805 (Chip Resistor, 2-Leads, Body 2,00x1,20mm, IPC Medium Density)
pins: 1, 2

## 0008052551
designator R?, comment 2.5 MOhm, 1/8 W
RES, size 0805, 2.5 MOhm, 1/8 W; Manufacture  Name: Royalohm; Manufacture  SN: 0805W8F2504T5E; Resistance tolerance: +/-1%; Rated Power: 1/8 W; Size: 0805; Mounting Technology: SMT; Datasheet: https://www.mouser.vn/datasheet/2/1365/1-3044649.pdf; Resistance: 2.5 MOhm; Supplier 1 Name: Mouser; Supplier 1 SN: 303-0805W8F2504T5E; Supplier 1 URL: https://www.mouser.vn/ProductDetail/Royalohm/0805W8F2504T5E?qs=e8oIoAS2J1Q2l7BgYnDvGQ%3D%3D; Supplier 2 Name: Digi-Key; Supplier 2 SN: N/A; Supplier 2 URL: N/A; Supplier 3 Name: Thegioiic; Supplier 3 SN: N/A; Supplier 3 URL: N/A; Value: 2.5 MOhm, 1/8 W
footprint RESISTOR_0805 (Chip Resistor, 2-Leads, Body 2,00x1,20mm, IPC Medium Density)
pins: 1, 2

## 0008052555
designator R?, comment 2.5 MOhm, 1/8 W
RES, size 0805, 2.5 MOhm, 1/8 W; Manufacture  Name: Ohmite; Manufacture  SN: HVC0805T2504JET; Resistance tolerance: +/-5%; Rated Power: 1/8 W; Size: 0805; Mounting Technology: SMT; Datasheet: https://www.mouser.vn/datasheet/2/303/res_hvc-3082600.pdf; Resistance: 2.5 MOhm; Supplier 1 Name: Mouser; Supplier 1 SN: 588-HVC0805T2504JET; Supplier 1 URL: https://www.mouser.vn/ProductDetail/Ohmite/HVC0805T2504JET?qs=wolJx%252BcPnTpZSJA41zZzFA%3D%3D; Supplier 2 Name: Digi-Key; Supplier 2 SN: HVC0805T2504JETTR-ND - Tape & Reel (TR); Supplier 2 URL: https://www.digikey.com/en/products/detail/ohmite/HVC0805T2504JET/4759727; Supplier 3 Name: Thegioiic; Supplier 3 SN: N/A; Supplier 3 URL: N/A; Value: 2.5 MOhm, 1/8 W
footprint RESISTOR_0805 (Chip Resistor, 2-Leads, Body 2,00x1,20mm, IPC Medium Density)
pins: 1, 2

## 0008052711
designator R?, comment 270 Ohm, 1/8 W
RES, size 0805, 270 Ohm, 1/8 W; Manufacture  Name: Bourns; Manufacture  SN: CR0805-FX-2700ELF; Resistance tolerance: +/-1%; Rated Power: 1/8 W; Resistance: 270 Ohm; Size: 0805; Mounting Technology: SMT; Datasheet: https://www.mouser.vn/datasheet/2/54/cr-1858361.pdf; Supplier 1 Name: Mouser; Supplier 1 SN: 652-CR0805FX-2700ELF; Supplier 1 URL: https://www.mouser.vn/ProductDetail/Bourns/CR0805-FX-2700ELF?qs=4vGXhLEMbUwfoxAMFQ260A%3D%3D; Supplier 2 Name: Digi-Key; Supplier 2 SN: 311-270CRTR-ND - Tape & Reel (TR); Supplier 2 URL: https://www.digikey.com/en/products/detail/yageo/RC0805FR-07270RL/727783; Supplier 3 Name: Thegioiic; Supplier 3 SN: N/A; Supplier 3 URL: N/A; Value: 270 Ohm, 1/8 W
footprint RESISTOR_0805 (Chip Resistor, 2-Leads, Body 2,00x1,20mm, IPC Medium Density)
pins: 1, 2

## 0008052715
designator R?, comment 270 Ohm, 1/8 W
RES, size 0805, 270 Ohm, 1/8 W; Manufacture  Name: Bourns; Manufacture  SN: CR0805-JW-271ELF; Resistance tolerance: +/-5%; Rated Power: 1/8 W; Resistance: 270 Ohm; Size: 0805; Mounting Technology: SMT; Datasheet: https://www.mouser.vn/datasheet/2/54/cr-1858361.pdf; Supplier 1 Name: Mouser; Supplier 1 SN: 652-CR0805JW-271ELF; Supplier 1 URL: https://www.mouser.vn/ProductDetail/Bourns/CR0805-JW-271ELF?qs=%252BcBkmVQIZ2R7GER%2FjClJmw%3D%3D; Supplier 2 Name: Digi-Key; Supplier 2 SN: 118-CR0805-JW-271ELFTR-ND - Tape & Reel (TR); Supplier 2 URL: https://www.digikey.com/en/products/detail/bourns-inc/CR0805-JW-271ELF/3785284; Supplier 3 Name: Thegioiic; Supplier 3 SN: N/A; Supplier 3 URL: https://www.thegioiic.com/dien-tro-270-ohm-0805-5; Value: 270 Ohm, 1/8 W
footprint RESISTOR_0805 (Chip Resistor, 2-Leads, Body 2,00x1,20mm, IPC Medium Density)
pins: 1, 2

## 0008052741
designator R?, comment 270 KOhm, 1/8 W
RES, size 0805, 270 KOhm, 1/8 W; Manufacture  Name: Panasonic; Manufacture  SN: ERJ-6ENF2703V; Resistance tolerance: +/-1%; Rated Power: 1/8 W; Size: 0805; Mounting Technology: SMT; Datasheet: https://www.mouser.vn/datasheet/2/315/AOA0000C304-1149620.pdf; Resistance: 270 KOhm; Supplier 1 Name: Mouser; Supplier 1 SN: 667-ERJ-6ENF2703V; Supplier 1 URL: https://www.mouser.vn/ProductDetail/Panasonic/ERJ-6ENF2703V?qs=50QC8w71jAsIUsFp0TwUKw%3D%3D; Supplier 2 Name: Digi-Key; Supplier 2 SN: 311-270KCRTR-ND - Tape & Reel (TR); Supplier 2 URL: https://www.digikey.com/en/products/detail/yageo/RC0805FR-07270KL/727784; Supplier 3 Name: Thegioiic; Supplier 3 SN: N/A; Supplier 3 URL: N/A; Value: 270 KOhm, 1/8 W
footprint RESISTOR_0805 (Chip Resistor, 2-Leads, Body 2,00x1,20mm, IPC Medium Density)
pins: 1, 2

## 0008052745
designator R?, comment 270 KOhm, 1/8 W
RES, size 0805, 270 KOhm, 1/8 W; Manufacture  Name: Panasonic; Manufacture  SN: ERJ-6GEYJ274V; Resistance tolerance: +/-5%; Rated Power: 1/8 W; Size: 0805; Mounting Technology: SMT; Datasheet: https://www.mouser.vn/datasheet/2/315/AOA0000C301-1488782.pdf; Resistance: 270 KOhm; Supplier 1 Name: Mouser; Supplier 1 SN: 667-ERJ-6GEYJ274V; Supplier 1 URL: https://www.mouser.vn/ProductDetail/Panasonic/ERJ-6GEYJ274V?qs=8%252BG0TiN%2FgVoTZyZKP1v2zQ%3D%3D; Supplier 2 Name: Digi-Key; Supplier 2 SN: P270KATR-ND - Tape & Reel (TR); Supplier 2 URL: https://www.digikey.com/en/products/detail/panasonic-electronic-components/ERJ-6GEYJ274V/83130; Supplier 3 Name: Thegioiic; Supplier 3 SN: N/A; Supplier 3 URL: https://www.thegioiic.com/dien-tro-270-kohm-0805-5; Value: 270 KOhm, 1/8 W
footprint RESISTOR_0805 (Chip Resistor, 2-Leads, Body 2,00x1,20mm, IPC Medium Density)
pins: 1, 2

## 0008052801
designator R?, comment 28 Ohm, 1/8 W
RES, size 0805, 28 Ohm, 1/8 W; Manufacture  Name: Panasonic; Manufacture  SN: ERJ-6ENF28R0V; Resistance tolerance: +/-1%; Rated Power: 1/8 W; Resistance: 28 Ohm; Size: 0805; Mounting Technology: SMT; Datasheet: https://www.mouser.vn/datasheet/2/315/AOA0000C304-1149620.pdf; Supplier 1 Name: Mouser; Supplier 1 SN: 667-ERJ-6ENF28R0V; Supplier 1 URL: https://www.mouser.vn/ProductDetail/Panasonic/ERJ-6ENF28R0V?qs=50QC8w71jAuRG2tW%252B3oKbA%3D%3D; Supplier 2 Name: Digi-Key; Supplier 2 SN: P28.0CTR-ND - Tape & Reel (TR); Supplier 2 URL: https://www.digikey.com/en/products/detail/panasonic-electronic-components/ERJ-6ENF28R0V/110979; Supplier 3 Name: Thegioiic; Supplier 3 SN: N/A; Supplier 3 URL: N/A; Value: 28 Ohm, 1/8 W
footprint RESISTOR_0805 (Chip Resistor, 2-Leads, Body 2,00x1,20mm, IPC Medium Density)
pins: 1, 2

## 0008052841
designator R?, comment 280 KOhm, 1/8 W
RES, size 0805, 280 KOhm, 1/8 W; Manufacture  Name: Bourns; Manufacture  SN: CR0805-FX-2803ELF; Resistance tolerance: +/-1%; Rated Power: 1/8 W; Size: 0805; Mounting Technology: SMT; Datasheet: https://www.mouser.vn/datasheet/2/54/cr-1858361.pdf; Resistance: 280 KOhm; Supplier 1 Name: Mouser; Supplier 1 SN: 652-CR0805FX-2803ELF; Supplier 1 URL: https://www.mouser.vn/ProductDetail/Bourns/CR0805-FX-2803ELF?qs=4vGXhLEMbUxB3cDlEY4HEQ%3D%3D; Supplier 2 Name: Digi-Key; Supplier 2 SN: 311-280KCRTR-ND - Tape & Reel (TR); Supplier 2 URL: https://www.digikey.com/en/products/detail/yageo/RC0805FR-07280KL/727792; Supplier 3 Name: Thegioiic; Supplier 3 SN: N/A; Supplier 3 URL: N/A; Value: 280 KOhm, 1/8 W
footprint RESISTOR_0805 (Chip Resistor, 2-Leads, Body 2,00x1,20mm, IPC Medium Density)
pins: 1, 2

## 0008052845
designator R?, comment 280 KOhm, 1/8 W
RES, size 0805, 280 KOhm, 1/8 W; Manufacture  Name: Royalohm; Manufacture  SN: HV05W8J0284T5E; Resistance tolerance: +/-5%; Rated Power: 1/8 W; Size: 0805; Mounting Technology: SMT; Datasheet: https://www.mouser.vn/datasheet/2/1365/HighVoltageHV-2525183.pdf; Resistance: 280 KOhm; Supplier 1 Name: Mouser; Supplier 1 SN: 303-HV05W8J0284T5E; Supplier 1 URL: https://www.mouser.vn/ProductDetail/Royalohm/HV05W8J0284T5E?qs=Wj%2FVkw3K%252BMC%252B5QnCuawYGQ%3D%3D; Supplier 2 Name: Digi-Key; Supplier 2 SN: N/A; Supplier 2 URL: N/A; Supplier 3 Name: Thegioiic; Supplier 3 SN: N/A; Supplier 3 URL: N/A; Value: 280 KOhm, 1/8 W
footprint RESISTOR_0805 (Chip Resistor, 2-Leads, Body 2,00x1,20mm, IPC Medium Density)
pins: 1, 2

## 0008053011
designator R?, comment 300 Ohm, 1/8 W
RES, size 0805, 300 Ohm, 1/8 W; Manufacture  Name: Panasonic; Manufacture  SN: ERJ-S06F3000V; Resistance tolerance: +/-1%; Rated Power: 1/8 W; Resistance: 300 Ohm; Size: 0805; Mounting Technology: SMT; Datasheet: https://www.mouser.vn/datasheet/2/315/AOA0000C334-1314047.pdf; Supplier 1 Name: Mouser; Supplier 1 SN: 667-ERJ-S06F3000V; Supplier 1 URL: https://www.mouser.vn/ProductDetail/Panasonic/ERJ-S06F3000V?qs=Zyl8A9hlmJpmD9LhGiXEgw%3D%3D; Supplier 2 Name: Digi-Key; Supplier 2 SN: 311-300CRTR-ND - Tape & Reel (TR); Supplier 2 URL: https://www.digikey.com/en/products/detail/yageo/RC0805FR-07300RL/727848; Supplier 3 Name: Thegioiic; Supplier 3 SN: N/A; Supplier 3 URL: N/A; Value: 300 Ohm, 1/8 W
footprint RESISTOR_0805 (Chip Resistor, 2-Leads, Body 2,00x1,20mm, IPC Medium Density)
pins: 1, 2

## 0008053015
designator R?, comment 300 Ohm, 1/8 W
RES, size 0805, 300 Ohm, 1/8 W; Manufacture  Name: Panasonic; Manufacture  SN: ERJ-U06J301V; Resistance tolerance: +/-5%; Rated Power: 1/8 W; Resistance: 300 Ohm; Size: 0805; Mounting Technology: SMT; Datasheet: https://www.mouser.vn/datasheet/2/315/AOA0000C334-1314047.pdf; Supplier 1 Name: Mouser; Supplier 1 SN: 667-ERJ-U06J301V; Supplier 1 URL: https://www.mouser.vn/ProductDetail/Panasonic/ERJ-U06J301V?qs=Yyy8avaXlIukLi0FzhyiCQ%3D%3D; Supplier 2 Name: Digi-Key; Supplier 2 SN: P300ATR-ND - Tape & Reel (TR); Supplier 2 URL: https://www.digikey.com/en/products/detail/panasonic-electronic-components/ERJ-6GEYJ301V/89720; Supplier 3 Name: Thegioiic; Supplier 3 SN: N/A; Supplier 3 URL: https://www.thegioiic.com/dien-tro-300-ohm-0805-5; Value: 300 Ohm, 1/8 W
footprint RESISTOR_0805 (Chip Resistor, 2-Leads, Body 2,00x1,20mm, IPC Medium Density)
pins: 1, 2